# Altium integrated library JST.IntLib: 43 symbols
Pins are listed as number, name and electrical type; pins without a type are passive.

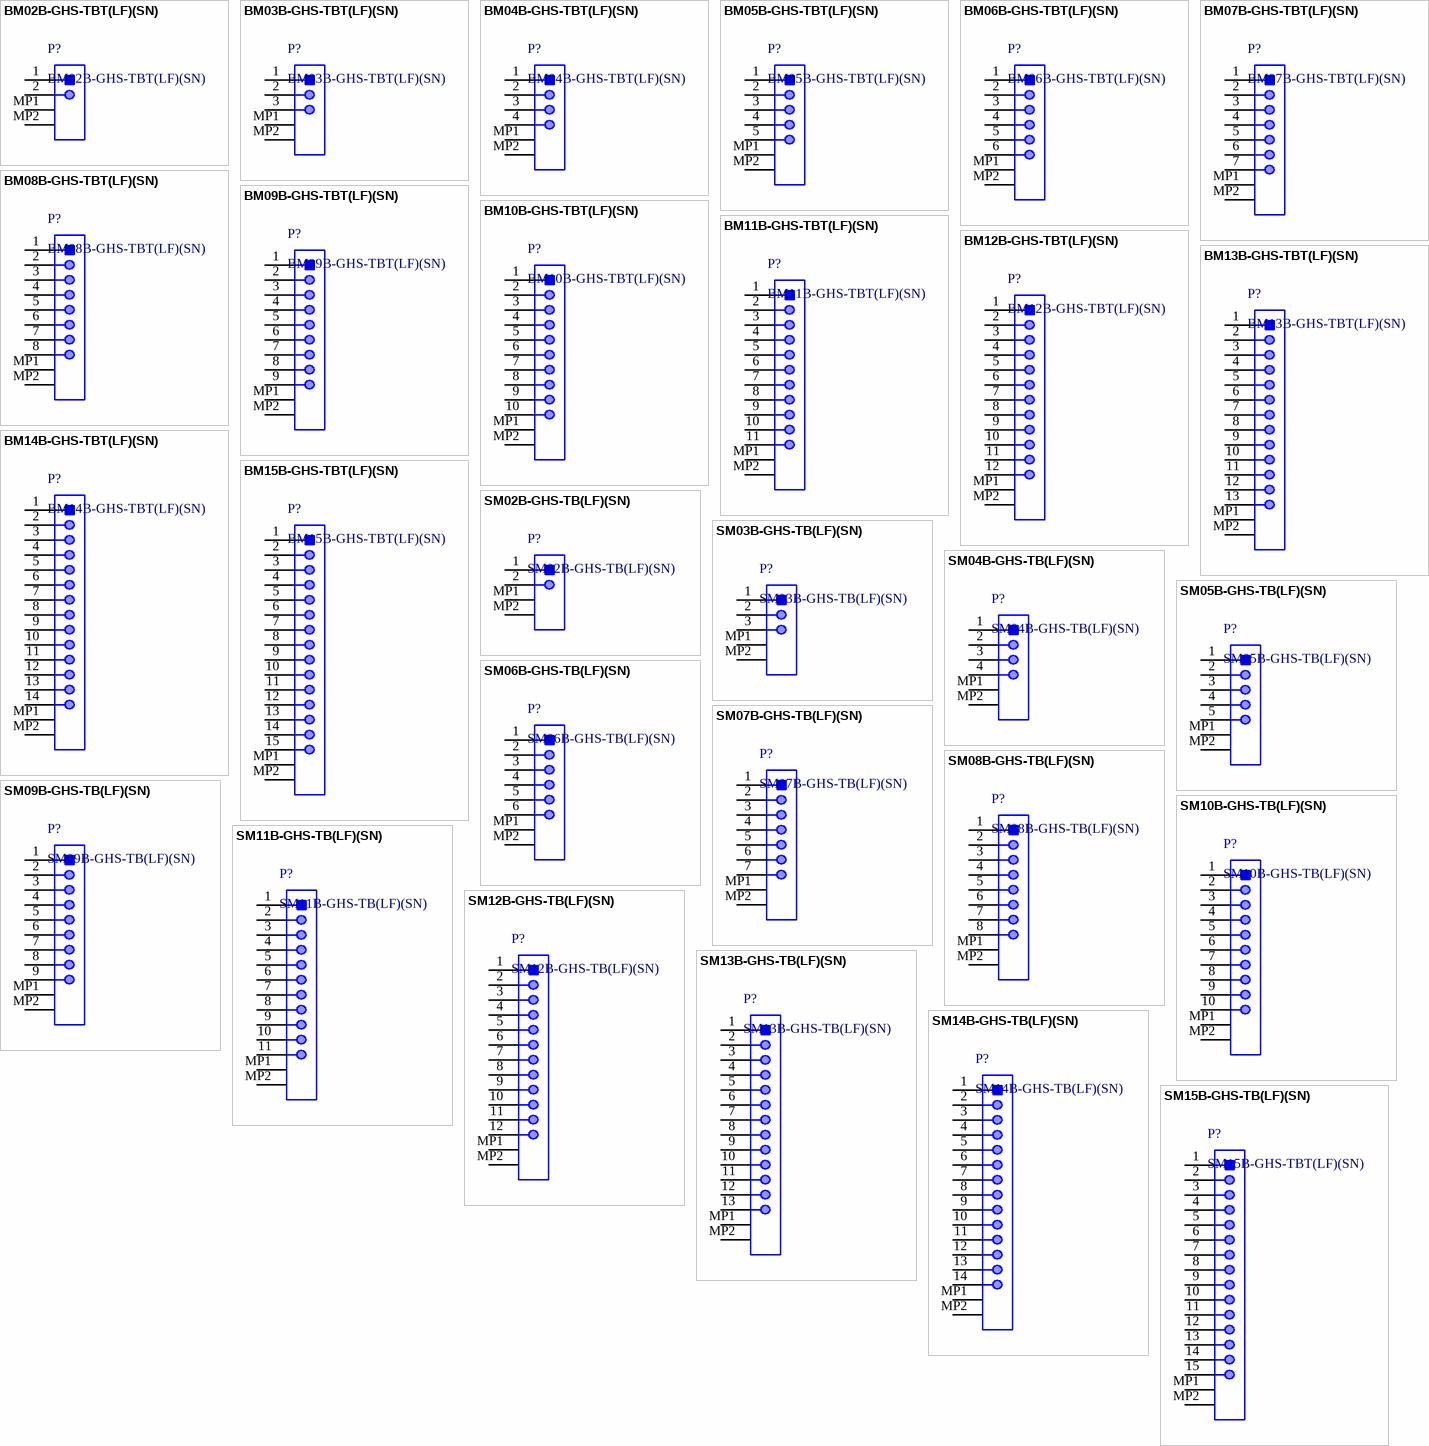
[diagram p0: symbols BM02B-GHS-TBT(LF)(SN) to SM15B-GHS-TB(LF)(SN)]

## BM02B-GHS-TBT(LF)(SN)
designator P?
GH Disconnectable Crimp Style Connector, Pitch 1.25 mm, 1 x 2 Position, Height 4.05 mm, -25 to 85 degC, RoHS, Tape and Reel; Manufacturer: JST; No of Positions: 2; Pitch: 1.25mm; Style/Orientation: StraightHeader/Plug; Package Reference: BM02B-GHS-TBT; Type: WiretoBoard; Datasheet URL: http://www.jst-mfg.com/product/pdf/eng/eGH.pdf; Termination: Crimp; Manufacturer URL: http://www.jst.com/home2.html; Mounting Technology: SurfaceMount; Datasheet Version: 05/2016; Package Description: GH Disconnectable Crimp Style Connector, Pitch 1.25 mm, 1 x 2 Position, Height 4.05 mm
footprint JST-BM02B-GHS-TBT_V (Connector, 2-Leads, Body 5.75x4.25mm, Pitch 1.25mm)
pins: 1, 2, MP1, MP2

## BM03B-GHS-TBT(LF)(SN)
designator P?
GH Disconnectable Crimp Style Connector, Pitch 1.25 mm, 1 x 3 Position, Height 4.05 mm, -25 to 85 degC, RoHS, Tape and Reel; Manufacturer: JST; No of Positions: 3; Pitch: 1.25mm; Style/Orientation: StraightHeader/Plug; Package Reference: BM03B-GHS-TBT; Type: WiretoBoard; Datasheet URL: http://www.jst-mfg.com/product/pdf/eng/eGH.pdf; Termination: Crimp; Manufacturer URL: http://www.jst.com/home2.html; Mounting Technology: SurfaceMount; Datasheet Version: 05/2016; Package Description: GH Disconnectable Crimp Style Connector, Pitch 1.25 mm, 1 x 3 Position, Height 4.05 mm
footprint JST-BM03B-GHS-TBT_V (Connector, 3-Leads, Body 7.00x4.25mm, Pitch 1.25mm)
pins: 1, 2, 3, MP1, MP2

## BM04B-GHS-TBT(LF)(SN)
designator P?
GH Disconnectable Crimp Style Connector, Pitch 1.25 mm, 1 x 4 Position, Height 4.05 mm, -25 to 85 degC, RoHS, Tape and Reel; Manufacturer: JST; No of Positions: 4; Pitch: 1.25mm; Style/Orientation: StraightHeader/Plug; Package Reference: BM04B-GHS-TBT; Type: WiretoBoard; Datasheet URL: http://www.jst-mfg.com/product/pdf/eng/eGH.pdf; Termination: Crimp; Manufacturer URL: http://www.jst.com/home2.html; Mounting Technology: SurfaceMount; Datasheet Version: 05/2016; Package Description: GH Disconnectable Crimp Style Connector, Pitch 1.25 mm, 1 x 4 Position, Height 4.05 mm
footprint JST-BM04B-GHS-TBT_V (Connector, 4-Leads, Body 8.25x4.25mm, Pitch 1.25mm)
pins: 1, 2, 3, 4, MP1, MP2

## BM05B-GHS-TBT(LF)(SN)
designator P?
GH Disconnectable Crimp Style Connector, Pitch 1.25 mm, 1 x 5 Position, Height 4.05 mm, -25 to 85 degC, RoHS, Tape and Reel; Manufacturer: JST; No of Positions: 5; Pitch: 1.25mm; Style/Orientation: StraightHeader/Plug; Package Reference: BM05B-GHS-TBT; Type: WiretoBoard; Datasheet URL: http://www.jst-mfg.com/product/pdf/eng/eGH.pdf; Termination: Crimp; Manufacturer URL: http://www.jst.com/home2.html; Mounting Technology: SurfaceMount; Datasheet Version: 05/2016; Package Description: GH Disconnectable Crimp Style Connector, Pitch 1.25 mm, 1 x 5 Position, Height 4.05 mm
footprint JST-BM05B-GHS-TBT_V (Connector, 5-Leads, Body 9.5x4.25mm, Pitch 1.25mm)
pins: 1, 2, 3, 4, 5, MP1, MP2

## BM06B-GHS-TBT(LF)(SN)
designator P?
GH Disconnectable Crimp Style Connector, Pitch 1.25 mm, 1 x 6 Position, Height 4.05 mm, -25 to 85 degC, RoHS, Tape and Reel; Manufacturer: JST; No of Positions: 6; Pitch: 1.25mm; Style/Orientation: StraightHeader/Plug; Package Reference: BM06B-GHS-TBT; Type: WiretoBoard; Datasheet URL: http://www.jst-mfg.com/product/pdf/eng/eGH.pdf; Termination: Crimp; Manufacturer URL: http://www.jst.com/home2.html; Mounting Technology: SurfaceMount; Datasheet Version: 05/2016; Package Description: GH Disconnectable Crimp Style Connector, Pitch 1.25 mm, 1 x 6 Position, Height 4.05 mm
footprint JST-BM06B-GHS-TBT_V (Connector, 6-Leads, Body 10.75x4.25mm, Pitch 1.25mm)
pins: 1, 2, 3, 4, 5, 6, MP1, MP2

## BM07B-GHS-TBT(LF)(SN)
designator P?
GH Disconnectable Crimp Style Connector, Pitch 1.25 mm, 1 x 7 Position, Height 4.05 mm, -25 to 85 degC, RoHS, Tape and Reel; Manufacturer: JST; No of Positions: 7; Pitch: 1.25mm; Style/Orientation: StraightHeader/Plug; Package Reference: BM07B-GHS-TBT; Type: WiretoBoard; Datasheet URL: http://www.jst-mfg.com/product/pdf/eng/eGH.pdf; Termination: Crimp; Manufacturer URL: http://www.jst.com/home2.html; Mounting Technology: SurfaceMount; Datasheet Version: 05/2016; Package Description: GH Disconnectable Crimp Style Connector, Pitch 1.25 mm, 1 x 7 Position, Height 4.05 mm
footprint JST-BM07B-GHS-TBT_V (Connector, 7-Leads, Body 12.00x4.25mm, Pitch 1.25mm)
pins: 1, 2, 3, 4, 5, 6, 7, MP1, MP2

## BM08B-GHS-TBT(LF)(SN)
designator P?
GH Disconnectable Crimp Style Connector, Pitch 1.25 mm, 1 x 8 Position, Height 4.05 mm, -25 to 85 degC, RoHS, Tape and Reel; Manufacturer: JST; No of Positions: 8; Pitch: 1.25mm; Style/Orientation: StraightHeader/Plug; Package Reference: BM08B-GHS-TBT; Type: WiretoBoard; Datasheet URL: http://www.jst-mfg.com/product/pdf/eng/eGH.pdf; Termination: Crimp; Manufacturer URL: http://www.jst.com/home2.html; Mounting Technology: SurfaceMount; Datasheet Version: 05/2016; Package Description: GH Disconnectable Crimp Style Connector, Pitch 1.25 mm, 1 x 8 Position, Height 4.05 mm
footprint JST-BM08B-GHS-TBT_V (Connector, 8-Leads, Body 13.25x4.25mm, Pitch 1.25mm)
pins: 1, 2, 3, 4, 5, 6, 7, 8, MP1, MP2

## BM09B-GHS-TBT(LF)(SN)
designator P?
GH Disconnectable Crimp Style Connector, Pitch 1.25 mm, 1 x 9 Position, Height 4.05 mm, -25 to 85 degC, RoHS, Tape and Reel; Manufacturer: JST; No of Positions: 9; Pitch: 1.25mm; Style/Orientation: StraightHeader/Plug; Package Reference: BM09B-GHS-TBT; Type: WiretoBoard; Datasheet URL: http://www.jst-mfg.com/product/pdf/eng/eGH.pdf; Termination: Crimp; Manufacturer URL: http://www.jst.com/home2.html; Mounting Technology: SurfaceMount; Datasheet Version: 05/2016; Package Description: GH Disconnectable Crimp Style Connector, Pitch 1.25 mm, 1 x 9 Position, Height 4.05 mm
footprint JST-BM09B-GHS-TBT_V (Connector, 9-Leads, Body  14.50x4.25mm, Pitch 1.25mm)
pins: 1, 2, 3, 4, 5, 6, 7, 8, 9, MP1, MP2

## BM10B-GHS-TBT(LF)(SN)
designator P?
GH Disconnectable Crimp Style Connector, Pitch 1.25 mm, 1 x 10 Position, Height 4.05 mm, -25 to 85 degC, RoHS, Tape and Reel; Manufacturer: JST; No of Positions: 10; Pitch: 1.25mm; Style/Orientation: StraightHeader/Plug; Package Reference: BM10B-GHS-TBT; Type: WiretoBoard; Datasheet URL: http://www.jst-mfg.com/product/pdf/eng/eGH.pdf; Termination: Crimp; Manufacturer URL: http://www.jst.com/home2.html; Mounting Technology: SurfaceMount; Datasheet Version: 05/2016; Package Description: GH Disconnectable Crimp Style Connector, Pitch 1.25 mm, 1 x 10 Position, Height 4.05 mm
footprint JST-BM10B-GHS-TBT_V (Connector, 10-Leads, Body  15.75x4.25mm, Pitch 1.25mm)
pins: 1, 2, 3, 4, 5, 6, 7, 8, 9, 10, MP1, MP2

## BM11B-GHS-TBT(LF)(SN)
designator P?
GH Disconnectable Crimp Style Connector, Pitch 1.25 mm, 1 x 11 Position, Height 4.05 mm, -25 to 85 degC, RoHS, Tape and Reel; Manufacturer: JST; No of Positions: 11; Pitch: 1.25mm; Style/Orientation: StraightHeader/Plug; Package Reference: BM11B-GHS-TBT; Type: WiretoBoard; Datasheet URL: http://www.jst-mfg.com/product/pdf/eng/eGH.pdf; Termination: Crimp; Manufacturer URL: http://www.jst.com/home2.html; Mounting Technology: SurfaceMount; Datasheet Version: 05/2016; Package Description: GH Disconnectable Crimp Style Connector, Pitch 1.25 mm, 1 x 11 Position, Height 4.05 mm
footprint JST-BM11B-GHS-TBT_V (Connector, 11-Leads, Body  17.00x4.25mm, Pitch 1.25mm)
pins: 1, 2, 3, 4, 5, 6, 7, 8, 9, 10, 11, MP1, MP2

## BM12B-GHS-TBT(LF)(SN)
designator P?
GH Disconnectable Crimp Style Connector, Pitch 1.25 mm, 1 x 12 Position, Height 4.05 mm, -25 to 85 degC, RoHS, Tape and Reel; Manufacturer: JST; No of Positions: 12; Pitch: 1.25mm; Style/Orientation: StraightHeader/Plug; Package Reference: BM12B-GHS-TBT; Type: WiretoBoard; Datasheet URL: http://www.jst-mfg.com/product/pdf/eng/eGH.pdf; Termination: Crimp; Manufacturer URL: http://www.jst.com/home2.html; Mounting Technology: SurfaceMount; Datasheet Version: 05/2016; Package Description: GH Disconnectable Crimp Style Connector, Pitch 1.25 mm, 1 x 12 Position, Height 4.05 mm
footprint JST-BM12B-GHS-TBT_V (Connector, 12-Leads, Body  18.25x4.25mm, Pitch 1.25mm)
pins: 1, 2, 3, 4, 5, 6, 7, 8, 9, 10, 11, 12, MP1, MP2

## BM13B-GHS-TBT(LF)(SN)
designator P?
GH Disconnectable Crimp Style Connector, Pitch 1.25 mm, 1 x 13 Position, Height 4.05 mm, -25 to 85 degC, RoHS, Tape and Reel; Manufacturer: JST; No of Positions: 13; Pitch: 1.25mm; Style/Orientation: StraightHeader/Plug; Package Reference: BM13B-GHS-TBT; Type: WiretoBoard; Datasheet URL: http://www.jst-mfg.com/product/pdf/eng/eGH.pdf; Termination: Crimp; Manufacturer URL: http://www.jst.com/home2.html; Mounting Technology: SurfaceMount; Datasheet Version: 05/2016; Package Description: GH Disconnectable Crimp Style Connector, Pitch 1.25 mm, 1 x 13 Position, Height 4.05 mm
footprint JST-BM13B-GHS-TBT_V (Connector, 13-Leads, Body  19.50x4.25mm, Pitch 1.25mm)
pins: 1, 2, 3, 4, 5, 6, 7, 8, 9, 10, 11, 12, 13, MP1, MP2

## BM14B-GHS-TBT(LF)(SN)
designator P?
GH Disconnectable Crimp Style Connector, Pitch 1.25 mm, 1 x 14 Position, Height 4.05 mm, -25 to 85 degC, RoHS, Tape and Reel; Manufacturer: JST; No of Positions: 14; Pitch: 1.25mm; Style/Orientation: StraightHeader/Plug; Package Reference: BM14B-GHS-TBT; Type: WiretoBoard; Datasheet URL: http://www.jst-mfg.com/product/pdf/eng/eGH.pdf; Termination: Crimp; Manufacturer URL: http://www.jst.com/home2.html; Mounting Technology: SurfaceMount; Datasheet Version: 05/2016; Package Description: GH Disconnectable Crimp Style Connector, Pitch 1.25 mm, 1 x 14 Position, Height 4.05 mm
footprint JST-BM14B-GHS-TBT_V (Connector, 14-Leads, Body  20.75x4.25mm, Pitch 1.25mm)
pins: 1, 2, 3, 4, 5, 6, 7, 8, 9, 10, 11, 12, 13, 14, MP1, MP2

## BM15B-GHS-TBT(LF)(SN)
designator P?
GH Disconnectable Crimp Style Connector, Pitch 1.25 mm, 1 x 15 Position, Height 4.05 mm, -25 to 85 degC, RoHS, Tape and Reel; Manufacturer: JST; No of Positions: 15; Pitch: 1.25mm; Style/Orientation: StraightHeader/Plug; Package Reference: BM15B-GHS-TBT; Type: WiretoBoard; Datasheet URL: http://www.jst-mfg.com/product/pdf/eng/eGH.pdf; Termination: Crimp; Manufacturer URL: http://www.jst.com/home2.html; Mounting Technology: SurfaceMount; Datasheet Version: 05/2016; Package Description: GH Disconnectable Crimp Style Connector, Pitch 1.25 mm, 1 x 15 Position, Height 4.05 mm
footprint JST-BM15B-GHS-TBT_V (Connector, 15-Leads, Body  22.00x4.25mm, Pitch 1.25mm)
pins: 1, 2, 3, 4, 5, 6, 7, 8, 9, 10, 11, 12, 13, 14, 15, MP1, MP2

## SM02B-GHS-TB(LF)(SN)
designator P?
GH Disconnectable Crimp Style Connector, Pitch 1.25 mm, 1 x 2 Position, Height 4.25 mm, -25 to 85 degC, RoHS, Tape and Reel; Manufacturer: JST; No of Positions: 2; Pitch: 1.25mm; Style/Orientation: RightAngleHeader/Plug; Package Reference: SM02B-GHS-TB; Type: WiretoBoard; Datasheet URL: http://www.jst-mfg.com/product/pdf/eng/eGH.pdf; Termination: Crimp; Manufacturer URL: http://www.jst.com/home2.html; Mounting Technology: SurfaceMount; Datasheet Version: 05/2016; Package Description: GH Disconnectable Crimp Style Connector, Pitch 1.25 mm, 1 x 2 Position, Height 4.25 mm
footprint JST-SM02B-GHS-TB_V (SMD, 2-Leads, Body 5.75x4.05mm, Pitch 1.25mm)
pins: 1, 2, MP1, MP2

## SM03B-GHS-TB(LF)(SN)
designator P?
GH Disconnectable Crimp Style Connector, Pitch 1.25 mm, 1 x 3 Position, Height 4.25 mm, -25 to 85 degC, RoHS, Tape and Reel; Manufacturer: JST; No of Positions: 3; Pitch: 1.25mm; Style/Orientation: RightAngleHeader/Plug; Package Reference: SM03B-GHS-TB; Type: WiretoBoard; Datasheet URL: http://www.jst-mfg.com/product/pdf/eng/eGH.pdf; Termination: Crimp; Manufacturer URL: http://www.jst.com/home2.html; Mounting Technology: SurfaceMount; Datasheet Version: 05/2016; Package Description: GH Disconnectable Crimp Style Connector, Pitch 1.25 mm, 1 x 3 Position, Height 4.25 mm
footprint JST-SM03B-GHS-TB_V (SMD, 3-Leads, Body 7.00x4.05mm, Pitch 1.25mm)
pins: 1, 2, 3, MP1, MP2

## SM04B-GHS-TB(LF)(SN)
designator P?
GH Disconnectable Crimp Style Connector, Pitch 1.25 mm, 1 x 4 Position, Height 4.25 mm, -25 to 85 degC, RoHS, Tape and Reel; Manufacturer: JST; No of Positions: 4; Pitch: 1.25mm; Style/Orientation: RightAngleHeader/Plug; Package Reference: SM04B-GHS-TB; Type: WiretoBoard; Datasheet URL: http://www.jst-mfg.com/product/pdf/eng/eGH.pdf; Termination: Crimp; Manufacturer URL: http://www.jst.com/home2.html; Mounting Technology: SurfaceMount; Datasheet Version: 05/2016; Package Description: GH Disconnectable Crimp Style Connector, Pitch 1.25 mm, 1 x 4 Position, Height 4.25 mm
footprint JST-SM04B-GHS-TB_V (SMD, 4-Leads, Body 8.25x4.05mm, Pitch 1.25mm)
pins: 1, 2, 3, 4, MP1, MP2

## SM05B-GHS-TB(LF)(SN)
designator P?
GH Disconnectable Crimp Style Connector, Pitch 1.25 mm, 1 x 5 Position, Height 4.25 mm, -25 to 85 degC, RoHS, Tape and Reel; Manufacturer: JST; No of Positions: 5; Pitch: 1.25mm; Style/Orientation: RightAngleHeader/Plug; Package Reference: SM05B-GHS-TB; Type: WiretoBoard; Datasheet URL: http://www.jst-mfg.com/product/pdf/eng/eGH.pdf; Termination: Crimp; Manufacturer URL: http://www.jst.com/home2.html; Mounting Technology: SurfaceMount; Datasheet Version: 05/2016; Package Description: GH Disconnectable Crimp Style Connector, Pitch 1.25 mm, 1 x 5 Position, Height 4.25 mm
footprint JST-SM05B-GHS-TB_V (SMD, 5-Leads, Body 9.50x4.05mm, Pitch 1.25mm)
pins: 1, 2, 3, 4, 5, MP1, MP2

## SM06B-GHS-TB(LF)(SN)
designator P?
GH Disconnectable Crimp Style Connector, Pitch 1.25 mm, 1 x 6 Position, Height 4.25 mm, -25 to 85 degC, RoHS, Tape and Reel; Manufacturer: JST; No of Positions: 6; Pitch: 1.25mm; Style/Orientation: RightAngleHeader/Plug; Package Reference: SM06B-GHS-TB; Type: WiretoBoard; Datasheet URL: http://www.jst-mfg.com/product/pdf/eng/eGH.pdf; Termination: Crimp; Manufacturer URL: http://www.jst.com/home2.html; Mounting Technology: SurfaceMount; Datasheet Version: 05/2016; Package Description: GH Disconnectable Crimp Style Connector, Pitch 1.25 mm, 1 x 6 Position, Height 4.25 mm
footprint JST-SM06B-GHS-TB_V (SMD, 6-Leads, Body 10.75x4.05mm, Pitch 1.25mm)
pins: 1, 2, 3, 4, 5, 6, MP1, MP2

## SM07B-GHS-TB(LF)(SN)
designator P?
GH Disconnectable Crimp Style Connector, Pitch 1.25 mm, 1 x 7 Position, Height 4.25 mm, -25 to 85 degC, RoHS, Tape and Reel; Manufacturer: JST; No of Positions: 7; Pitch: 1.25mm; Style/Orientation: RightAngleHeader/Plug; Package Reference: SM07B-GHS-TB; Type: WiretoBoard; Datasheet URL: http://www.jst-mfg.com/product/pdf/eng/eGH.pdf; Termination: Crimp; Manufacturer URL: http://www.jst.com/home2.html; Mounting Technology: SurfaceMount; Datasheet Version: 05/2016; Package Description: GH Disconnectable Crimp Style Connector, Pitch 1.25 mm, 1 x 7 Position, Height 4.25 mm
footprint JST-BM07B-GHS-TBT_V (Connector, 7-Leads, Body 12.00x4.25mm, Pitch 1.25mm)
pins: 1, 2, 3, 4, 5, 6, 7, MP1, MP2

## SM08B-GHS-TB(LF)(SN)
designator P?
GH Disconnectable Crimp Style Connector, Pitch 1.25 mm, 1 x 8 Position, Height 4.25 mm, -25 to 85 degC, RoHS, Tape and Reel; Manufacturer: JST; No of Positions: 8; Pitch: 1.25mm; Style/Orientation: RightAngleHeader/Plug; Package Reference: SM08B-GHS-TB; Type: WiretoBoard; Datasheet URL: http://www.jst-mfg.com/product/pdf/eng/eGH.pdf; Termination: Crimp; Manufacturer URL: http://www.jst.com/home2.html; Mounting Technology: SurfaceMount; Datasheet Version: 05/2016; Package Description: GH Disconnectable Crimp Style Connector, Pitch 1.25 mm, 1 x 8 Position, Height 4.25 mm
footprint JST-SM08B-GHS-TB_V (SMD, 8-Leads, Body 13.25x4.05mm, Pitch 1.25mm)
pins: 1, 2, 3, 4, 5, 6, 7, 8, MP1, MP2

## SM09B-GHS-TB(LF)(SN)
designator P?
GH Disconnectable Crimp Style Connector, Pitch 1.25 mm, 1 x 9 Position, Height 4.25 mm, -25 to 85 degC, RoHS, Tape and Reel; Manufacturer: JST; No of Positions: 9; Pitch: 1.25mm; Style/Orientation: RightAngleHeader/Plug; Package Reference: SM09B-GHS-TB; Type: WiretoBoard; Datasheet URL: http://www.jst-mfg.com/product/pdf/eng/eGH.pdf; Termination: Crimp; Manufacturer URL: http://www.jst.com/home2.html; Mounting Technology: SurfaceMount; Datasheet Version: 05/2016; Package Description: GH Disconnectable Crimp Style Connector, Pitch 1.25 mm, 1 x 9 Position, Height 4.25 mm
footprint JST-SM09B-GHS-TB_V (SMD, 9-Leads, Body 14.50x4.05mm, Pitch 1.25mm)
pins: 1, 2, 3, 4, 5, 6, 7, 8, 9, MP1, MP2

## SM10B-GHS-TB(LF)(SN)
designator P?
GH Disconnectable Crimp Style Connector, Pitch 1.25 mm, 1 x 10 Position, Height 4.25 mm, -25 to 85 degC, RoHS, Tape and Reel; Manufacturer: JST; No of Positions: 10; Pitch: 1.25mm; Style/Orientation: RightAngleHeader/Plug; Package Reference: SM10B-GHS-TB; Type: WiretoBoard; Datasheet URL: http://www.jst-mfg.com/product/pdf/eng/eGH.pdf; Termination: Crimp; Manufacturer URL: http://www.jst.com/home2.html; Mounting Technology: SurfaceMount; Datasheet Version: 05/2016; Package Description: GH Disconnectable Crimp Style Connector, Pitch 1.25 mm, 1 x 10 Position, Height 4.25 mm
footprint JST-SM10B-GHS-TB_V (SMD, 10-Leads, Body 15.75x4.05mm, Pitch 1.25mm)
pins: 1, 2, 3, 4, 5, 6, 7, 8, 9, 10, MP1, MP2

## SM11B-GHS-TB(LF)(SN)
designator P?
GH Disconnectable Crimp Style Connector, Pitch 1.25 mm, 1 x 11 Position, Height 4.25 mm, -25 to 85 degC, RoHS, Tape and Reel; Manufacturer: JST; No of Positions: 11; Pitch: 1.25mm; Style/Orientation: RightAngleHeader/Plug; Package Reference: SM11B-GHS-TB; Type: WiretoBoard; Datasheet URL: http://www.jst-mfg.com/product/pdf/eng/eGH.pdf; Termination: Crimp; Manufacturer URL: http://www.jst.com/home2.html; Mounting Technology: SurfaceMount; Datasheet Version: 05/2016; Package Description: GH Disconnectable Crimp Style Connector, Pitch 1.25 mm, 1 x 11 Position, Height 4.25 mm
footprint JST-SM11B-GHS-TB_V (SMD, 11-Leads, Body 17.00x4.05mm, Pitch 1.25mm)
pins: 1, 2, 3, 4, 5, 6, 7, 8, 9, 10, 11, MP1, MP2

## SM12B-GHS-TB(LF)(SN)
designator P?
GH Disconnectable Crimp Style Connector, Pitch 1.25 mm, 1 x 12 Position, Height 4.25 mm, -25 to 85 degC, RoHS, Tape and Reel; Manufacturer: JST; No of Positions: 12; Pitch: 1.25mm; Style/Orientation: RightAngleHeader/Plug; Package Reference: SM12B-GHS-TB; Type: WiretoBoard; Datasheet URL: http://www.jst-mfg.com/product/pdf/eng/eGH.pdf; Termination: Crimp; Manufacturer URL: http://www.jst.com/home2.html; Mounting Technology: SurfaceMount; Datasheet Version: 05/2016; Package Description: GH Disconnectable Crimp Style Connector, Pitch 1.25 mm, 1 x 12 Position, Height 4.25 mm
footprint JST-SM12B-GHS-TB_V (SMD, 12-Leads, Body 18.25x4.05mm, Pitch 1.25mm)
pins: 1, 2, 3, 4, 5, 6, 7, 8, 9, 10, 11, 12, MP1, MP2

## SM13B-GHS-TB(LF)(SN)
designator P?
GH Disconnectable Crimp Style Connector, Pitch 1.25 mm, 1 x 13 Position, Height 4.25 mm, -25 to 85 degC, RoHS, Tape and Reel; Manufacturer: JST; No of Positions: 13; Pitch: 1.25mm; Style/Orientation: RightAngleHeader/Plug; Package Reference: SM13B-GHS-TB; Type: WiretoBoard; Datasheet URL: http://www.jst-mfg.com/product/pdf/eng/eGH.pdf; Termination: Crimp; Manufacturer URL: http://www.jst.com/home2.html; Mounting Technology: SurfaceMount; Datasheet Version: 05/2016; Package Description: GH Disconnectable Crimp Style Connector, Pitch 1.25 mm, 1 x 13 Position, Height 4.25 mm
footprint JST-SM13B-GHS-TB_V (SMD, 13-Leads, Body 19.50x4.05mm, Pitch 1.25mm)
pins: 1, 2, 3, 4, 5, 6, 7, 8, 9, 10, 11, 12, 13, MP1, MP2

## SM14B-GHS-TB(LF)(SN)
designator P?
GH Disconnectable Crimp Style Connector, Pitch 1.25 mm, 1 x 14 Position, Height 4.25 mm, -25 to 85 degC, RoHS, Tape and Reel; Manufacturer: JST; No of Positions: 14; Pitch: 1.25mm; Style/Orientation: RightAngleHeader/Plug; Package Reference: SM14B-GHS-TB; Type: WiretoBoard; Datasheet URL: http://www.jst-mfg.com/product/pdf/eng/eGH.pdf; Termination: Crimp; Manufacturer URL: http://www.jst.com/home2.html; Mounting Technology: SurfaceMount; Datasheet Version: 05/2016; Package Description: GH Disconnectable Crimp Style Connector, Pitch 1.25 mm, 1 x 14 Position, Height 4.25 mm
footprint JST-SM14B-GHS-TB_V (SMD, 14-Leads, Body 20.75x4.05mm, Pitch 1.25mm)
pins: 1, 2, 3, 4, 5, 6, 7, 8, 9, 10, 11, 12, 13, 14, MP1, MP2

## SM15B-GHS-TB(LF)(SN)
designator P?, comment SM15B-GHS-TBT(LF)(SN)
GH Disconnectable Crimp Style Connector, Pitch 1.25 mm, 1 x 15 Position, Height 4.25 mm, -25 to 85 degC, RoHS, Tape and Reel; Manufacturer: JST; No of Positions: 15; Pitch: 1.25mm; Style/Orientation: RightAngleHeader/Plug; Package Reference: SM15B-GHS-TB; Type: WiretoBoard; Datasheet URL: http://www.jst-mfg.com/product/pdf/eng/eGH.pdf; Termination: Crimp; Manufacturer URL: http://www.jst.com/home2.html; Mounting Technology: SurfaceMount; Datasheet Version: 05/2016; Package Description: GH Disconnectable Crimp Style Connector, Pitch 1.25 mm, 1 x 15 Position, Height 4.25 mm
footprint JST-SM15B-GHS-TB_V (SMD, 15-Leads, Body 22.00x4.05mm, Pitch 1.25mm)
pins: 1, 2, 3, 4, 5, 6, 7, 8, 9, 10, 11, 12, 13, 14, 15, MP1, MP2


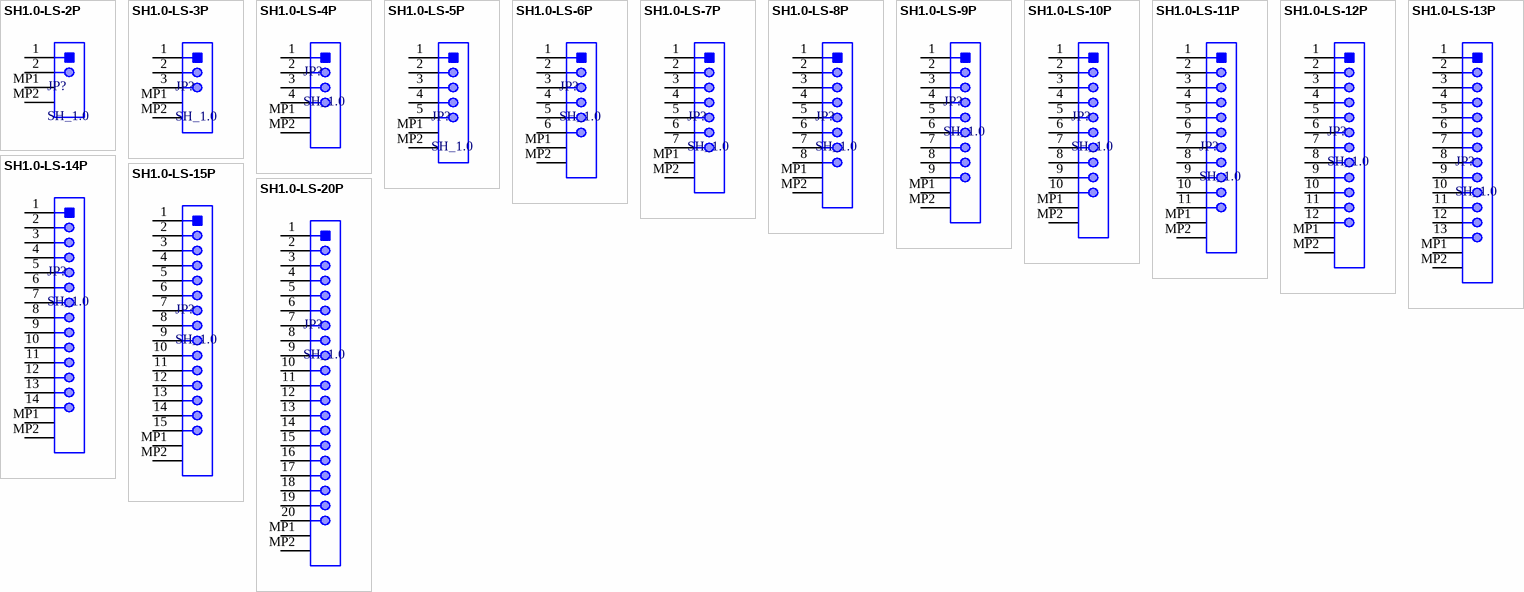
[diagram p1: symbols SH1.0-LS-2P to SH1.0-LS-20P]

## SH1.0-LS-2P
designator JP?, comment SH_1.0
SH CONNECTOR 1.0 mm pitch/Disconnectable Crimp style connectors 1 x 2 Position
footprint SH1.0-LS-2P
footprint SH1.0-WS-2P
pins: 1, 2, MP1, MP2

## SH1.0-LS-3P
designator JP?, comment SH_1.0
SH CONNECTOR 1.0 mm pitch/Disconnectable Crimp style connectors 1 x 3 Position
footprint SH1.0-LS-3P
footprint SH1.0-WS-3P
pins: 1, 2, 3, MP1, MP2

## SH1.0-LS-4P
designator JP?, comment SH_1.0
SH CONNECTOR 1.0 mm pitch/Disconnectable Crimp style connectors 1 x 4 Position
footprint SH1.0-LS-4P
footprint SH1.0-WS-4P
pins: 1, 2, 3, 4, MP1, MP2

## SH1.0-LS-5P
designator JP?, comment SH_1.0
SH CONNECTOR 1.0 mm pitch/Disconnectable Crimp style connectors 1 x 5 Position
footprint SH1.0-LS-5P
footprint SH1.0-WS-5P
pins: 1, 2, 3, 4, 5, MP1, MP2

## SH1.0-LS-6P
designator JP?, comment SH_1.0
SH CONNECTOR 1.0 mm pitch/Disconnectable Crimp style connectors 1 x 6 Position
footprint SH1.0-LS-6P
footprint SH1.0-WS-6P
pins: 1, 2, 3, 4, 5, 6, MP1, MP2

## SH1.0-LS-7P
designator JP?, comment SH_1.0
SH CONNECTOR 1.0 mm pitch/Disconnectable Crimp style connectors 1 x 7 Position
footprint SH1.0-LS-7P
footprint SH1.0-WS-7P
pins: 1, 2, 3, 4, 5, 6, 7, MP1, MP2

## SH1.0-LS-8P
designator JP?, comment SH_1.0
SH CONNECTOR 1.0 mm pitch/Disconnectable Crimp style connectors 1 x 8 Position
footprint SH1.0-LS-8P
footprint SH1.0-WS-8P
pins: 1, 2, 3, 4, 5, 6, 7, 8, MP1, MP2

## SH1.0-LS-9P
designator JP?, comment SH_1.0
SH CONNECTOR 1.0 mm pitch/Disconnectable Crimp style connectors 1 x 9 Position
footprint SH1.0-LS-9P
footprint SH1.0-WS-9P
pins: 1, 2, 3, 4, 5, 6, 7, 8, 9, MP1, MP2

## SH1.0-LS-10P
designator JP?, comment SH_1.0
SH CONNECTOR 1.0 mm pitch/Disconnectable Crimp style connectors 1 x 10 Position
footprint SH1.0-LS-10P
footprint SH1.0-WS-10P
pins: 1, 2, 3, 4, 5, 6, 7, 8, 9, 10, MP1, MP2

## SH1.0-LS-11P
designator JP?, comment SH_1.0
SH CONNECTOR 1.0 mm pitch/Disconnectable Crimp style connectors 1 x 11 Position
footprint SH1.0-LS-11P
footprint SH1.0-WS-11P
pins: 1, 2, 3, 4, 5, 6, 7, 8, 9, 10, 11, MP1, MP2

## SH1.0-LS-12P
designator JP?, comment SH_1.0
SH CONNECTOR 1.0 mm pitch/Disconnectable Crimp style connectors 1 x 12 Position
footprint SH1.0-WS-12P
footprint SH1.0-LS-12P
pins: 1, 2, 3, 4, 5, 6, 7, 8, 9, 10, 11, 12, MP1, MP2

## SH1.0-LS-13P
designator JP?, comment SH_1.0
SH CONNECTOR 1.0 mm pitch/Disconnectable Crimp style connectors 1 x 13 Position
footprint SH1.0-LS-13P
footprint SH1.0-WS-13P
pins: 1, 2, 3, 4, 5, 6, 7, 8, 9, 10, 11, 12, 13, MP1, MP2

## SH1.0-LS-14P
designator JP?, comment SH_1.0
SH CONNECTOR 1.0 mm pitch/Disconnectable Crimp style connectors 1 x 14 Position
footprint SH1.0-LS-14P
footprint SH1.0-WS-14P
pins: 1, 2, 3, 4, 5, 6, 7, 8, 9, 10, 11, 12, 13, 14, MP1, MP2

## SH1.0-LS-15P
designator JP?, comment SH_1.0
SH CONNECTOR 1.0 mm pitch/Disconnectable Crimp style connectors 1 x 15 Position
footprint SH1.0-LS-15P
footprint SH1.0-WS-15P
pins: 1, 2, 3, 4, 5, 6, 7, 8, 9, 10, 11, 12, 13, 14, 15, MP1, MP2

## SH1.0-LS-20P
designator JP?, comment SH_1.0
SH CONNECTOR 1.0 mm pitch/Disconnectable Crimp style connectors 1 x 20 Position
footprint SH1.0-LS-20P
pins: 1, 2, 3, 4, 5, 6, 7, 8, 9, 10, 11, 12, 13, 14, 15, 16, 17, 18, 19, 20, MP1, MP2